# Altium integrated library SS12D07VG4.IntLib: 1 symbol
Pins are listed as number, name and electrical type; pins without a type are passive.

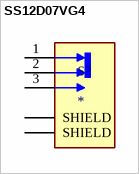
[diagram p0: symbol SS12D07VG4]

## SS12D07VG4
designator S?
Push Slide Switch; MF: Shouhan; MP: SS12D07VG4; SnapEDA_Link: https://www.snapeda.com/parts/SS12D07VG4/Shouhan/view-part/5844111/?ref=snap; Value: *; Check_prices: https://www.snapeda.com/parts/SS12D07VG4/Shouhan/view-part/5844111/?ref=eda; Package: Package; Availability: Unavailable; Price: None
footprint SW_SS12D07VG4
pins: 1, 2, 3, S1 SHIELD, S2 SHIELD